# EAGLE library part 745-010-1 (library strasys_standard)
2mm Female Header Pitch: 2mm Straigh Single Row 10 contacts
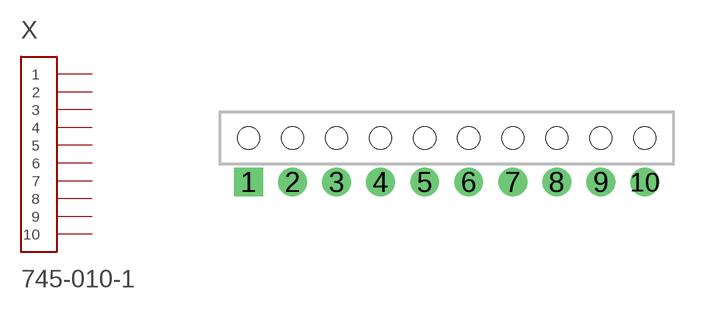
[diagram p1: symbol with the pads of 2MM-1-REIH-10; footprint 2MM-1-REIH-10]

Designator prefix X

## 745-010-1, 745-010-1-60 (MPN: 745-010-1-60; SUPPLIER: W+P)  [2MM-1-REIH-10]
1  1
2  2
3  3
4  4
5  5
6  6
7  7
8  8
9  9
10  10

## Footprint 2MM-1-REIH-10 (pad centres in mm)
female headers pitch: 2mm straight single row dual entry 10 contacts
drill 0.8 square: 1 0,-2
drill 0.8: 2 2,-2; 3 4,-2; 4 6,-2; 5 8,-2; 6 10,-2; 7 12,-2; 8 14,-2; 9 16,-2; 10 18,-2
hole 1 at 2,0
hole 1 at 4,0
hole 1 at 6,0
hole 1 at 8,0
hole 1 at 10,0
hole 1 at 12,0
hole 1 at 14,0
hole 1 at 16,0
hole 1 at 18,0
hole 1 at 0,0